# EAGLE library part CONECTOR (library FDS)
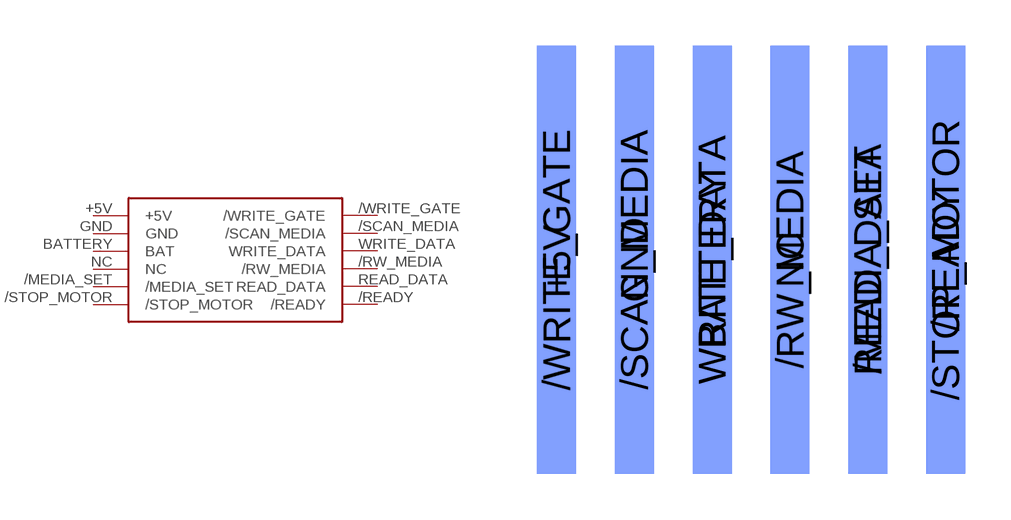
[diagram p0: symbol with the pads of CONNECTOR; footprint CONNECTOR]

Designator prefix -

## CONECTOR  [CONNECTOR]
+5V  +5V
/MEDIA_SET  /MEDIA_SET
/READY  /READY
/RW_MEDIA  /RW_MEDIA
/SCAN_MEDIA  /SCAN_MEDIA
/STOP_MOTOR  /STOP_MOTOR
/WRITE_GATE  /WRITE_GATE
BATTERY  BAT
GND  GND
NC  NC
READ_DATA  READ_DATA
WRITE_DATA  WRITE_DATA

## Footprint CONNECTOR (pad centres in mm)
Conector Famicom Disk System or Nintendo Multi Out
smd 1.27 x 13.97: +5V -5.08,-5.08; /MEDIA_SET 5.08,-5.08; /STOP_MOTOR 7.62,-5.08; BATTERY 0,-5.08; GND -2.54,-5.08; NC 2.54,-5.08
smd 1.27 x 13.97 bottom: /READY 7.62,-5.08; /RW_MEDIA 2.54,-5.08; /SCAN_MEDIA -2.54,-5.08; /WRITE_GATE -5.08,-5.08; READ_DATA 5.08,-5.08; WRITE_DATA 0,-5.08